# EAGLE library part SPARKFUN_BEAGLE_BONE_BLACK_CAPE (library SparkFun-Boards)
BeagleBone Black Rev C Cape Generic footprint for BeagleBone Black Rev C Capes. SparkFun Products: SparkFun BeagleBone Black Proto Cape <https://www.sparkfun.com/products/12774> SparkFun CryptoCape <https://www.sparkfun.com/products/12773>
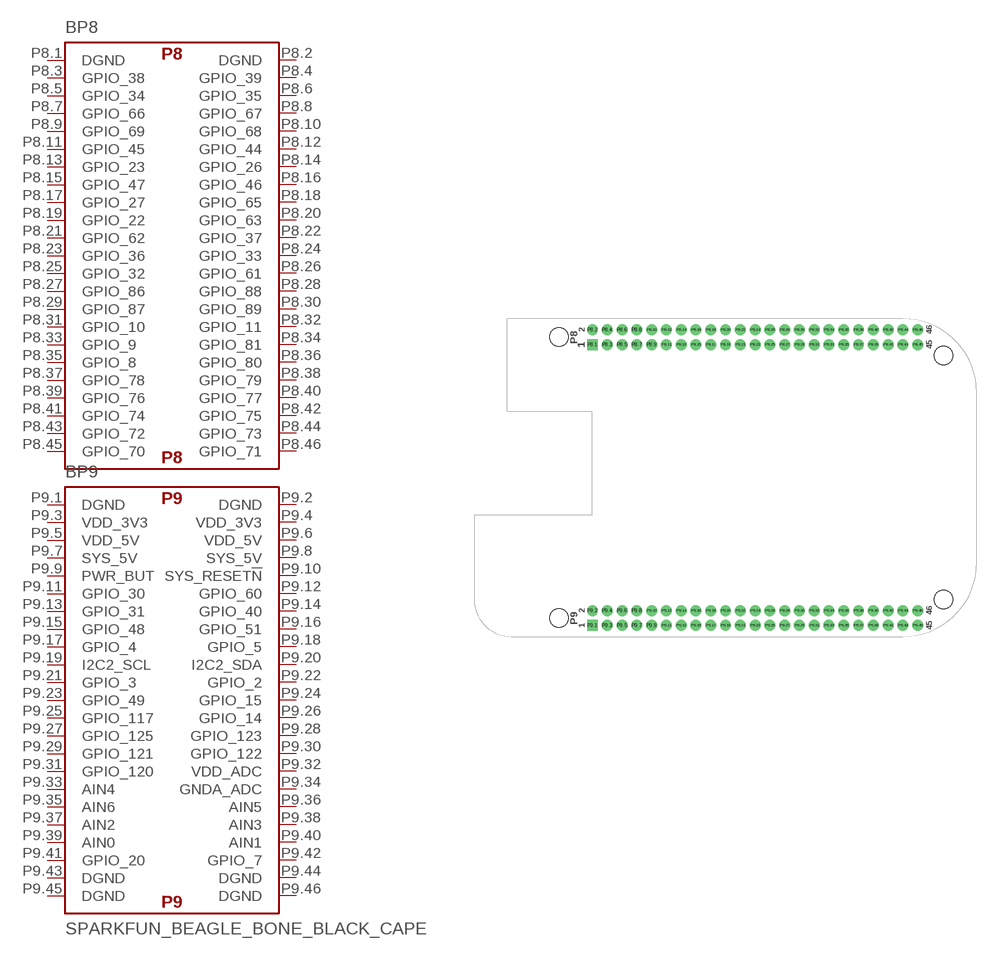
[diagram p13: symbol with the pads of BEAGLE_BONE_BLACK_CAPE; footprint BEAGLE_BONE_BLACK_CAPE]

Designator prefix B; gates P8=BEAGLE_BONE_BLACK_P8 P9=BEAGLE_BONE_BLACK_P9

## SPARKFUN_BEAGLE_BONE_BLACK_CAPE  [BEAGLE_BONE_BLACK_CAPE]
P8.1  P8:DGND
P8.2  P8:DGND
P8.3  P8:GPIO_38
P8.4  P8:GPIO_39
P8.5  P8:GPIO_34
P8.6  P8:GPIO_35
P8.7  P8:GPIO_66
P8.8  P8:GPIO_67
P8.9  P8:GPIO_69
P8.10  P8:GPIO_68
P8.11  P8:GPIO_45
P8.12  P8:GPIO_44
P8.13  P8:GPIO_23
P8.14  P8:GPIO_26
P8.15  P8:GPIO_47
P8.16  P8:GPIO_46
P8.17  P8:GPIO_27
P8.18  P8:GPIO_65
P8.19  P8:GPIO_22
P8.20  P8:GPIO_63
P8.21  P8:GPIO_62
P8.22  P8:GPIO_37
P8.23  P8:GPIO_36
P8.24  P8:GPIO_33
P8.25  P8:GPIO_32
P8.26  P8:GPIO_61
P8.27  P8:GPIO_86
P8.28  P8:GPIO_88
P8.29  P8:GPIO_87
P8.30  P8:GPIO_89
P8.31  P8:GPIO_10
P8.32  P8:GPIO_11
P8.33  P8:GPIO_9
P8.34  P8:GPIO_81
P8.35  P8:GPIO_8
P8.36  P8:GPIO_80
P8.37  P8:GPIO_78
P8.38  P8:GPIO_79
P8.39  P8:GPIO_76
P8.40  P8:GPIO_77
P8.41  P8:GPIO_74
P8.42  P8:GPIO_75
P8.43  P8:GPIO_72
P8.44  P8:GPIO_73
P8.45  P8:GPIO_70
P8.46  P8:GPIO_71
P9.1  P9:DGND
P9.2  P9:DGND
P9.3  P9:VDD_3V3
P9.4  P9:VDD_3V3
P9.5  P9:VDD_5V
P9.6  P9:VDD_5V
P9.7  P9:SYS_5V
P9.8  P9:SYS_5V
P9.9  P9:PWR_BUT
P9.10  P9:SYS_RESET!N
P9.11  P9:GPIO_30
P9.12  P9:GPIO_60
P9.13  P9:GPIO_31
P9.14  P9:GPIO_40
P9.15  P9:GPIO_48
P9.16  P9:GPIO_51
P9.17  P9:GPIO_4
P9.18  P9:GPIO_5
P9.19  P9:I2C2_SCL
P9.20  P9:I2C2_SDA
P9.21  P9:GPIO_3
P9.22  P9:GPIO_2
P9.23  P9:GPIO_49
P9.24  P9:GPIO_15
P9.25  P9:GPIO_117
P9.26  P9:GPIO_14
P9.27  P9:GPIO_125
P9.28  P9:GPIO_123
P9.29  P9:GPIO_121
P9.30  P9:GPIO_122
P9.31  P9:GPIO_120
P9.32  P9:VDD_ADC
P9.33  P9:AIN4
P9.34  P9:GNDA_ADC
P9.35  P9:AIN6
P9.36  P9:AIN5
P9.37  P9:AIN2
P9.38  P9:AIN3
P9.39  P9:AIN0
P9.40  P9:AIN1
P9.41  P9:GPIO_20
P9.42  P9:GPIO_7
P9.43  P9:DGND
P9.44  P9:DGND
P9.45  P9:DGND
P9.46  P9:DGND

## Footprint BEAGLE_BONE_BLACK_CAPE (pad centres in mm)
BeagleBone Black Cape Footprint Specifications: Pin count:92 Pin pitch: 0.1" Area:3.4x2.15 in Datasheet referenced for footprint: Example device(s): BeagleBone Black Cape
drill 1.016 pad 1.88 square: P8.1 -24.13,20.955; P9.1 -24.13,-27.305
drill 1.016 pad 1.88: P8.2 -24.13,23.495; P8.3 -21.59,20.955; P8.4 -21.59,23.495; P8.5 -19.05,20.955; P8.6 -19.05,23.495; P8.7 -16.51,20.955; P8.8 -16.51,23.495; P8.9 -13.97,20.955; P8.10 -13.97,23.495; P8.11 -11.43,20.955; P8.12 -11.43,23.495; P8.13 -8.89,20.955; P8.14 -8.89,23.495; P8.15 -6.35,20.955; P8.16 -6.35,23.495; P8.17 -3.81,20.955; P8.18 -3.81,23.495; P8.19 -1.27,20.955; P8.20 -1.27,23.495; P8.21 1.27,20.955; P8.22 1.27,23.495; P8.23 3.81,20.955; P8.24 3.81,23.495; P8.25 6.35,20.955; P8.26 6.35,23.495; P8.27 8.89,20.955; P8.28 8.89,23.495; P8.29 11.43,20.955; P8.30 11.43,23.495; P8.31 13.97,20.955; P8.32 13.97,23.495; P8.33 16.51,20.955; P8.34 16.51,23.495; P8.35 19.05,20.955; P8.36 19.05,23.495; P8.37 21.59,20.955; P8.38 21.59,23.495; P8.39 24.13,20.955; P8.40 24.13,23.495; P8.41 26.67,20.955; P8.42 26.67,23.495; P8.43 29.21,20.955; P8.44 29.21,23.495; P8.45 31.75,20.955; P8.46 31.75,23.495; P9.2 -24.13,-24.765; P9.3 -21.59,-27.305; P9.4 -21.59,-24.765; P9.5 -19.05,-27.305; P9.6 -19.05,-24.765; P9.7 -16.51,-27.305; P9.8 -16.51,-24.765; P9.9 -13.97,-27.305; P9.10 -13.97,-24.765; P9.11 -11.43,-27.305; P9.12 -11.43,-24.765; P9.13 -8.89,-27.305; P9.14 -8.89,-24.765; P9.15 -6.35,-27.305; P9.16 -6.35,-24.765; P9.17 -3.81,-27.305; P9.18 -3.81,-24.765; P9.19 -1.27,-27.305; P9.20 -1.27,-24.765; P9.21 1.27,-27.305; P9.22 1.27,-24.765; P9.23 3.81,-27.305; P9.24 3.81,-24.765; P9.25 6.35,-27.305; P9.26 6.35,-24.765; P9.27 8.89,-27.305; P9.28 8.89,-24.765; P9.29 11.43,-27.305; P9.30 11.43,-24.765; P9.31 13.97,-27.305; P9.32 13.97,-24.765; P9.33 16.51,-27.305; P9.34 16.51,-24.765; P9.35 19.05,-27.305; P9.36 19.05,-24.765; P9.37 21.59,-27.305; P9.38 21.59,-24.765; P9.39 24.13,-27.305; P9.40 24.13,-24.765; P9.41 26.67,-27.305; P9.42 26.67,-24.765; P9.43 29.21,-27.305; P9.44 29.21,-24.765; P9.45 31.75,-27.305; P9.46 31.75,-24.765
hole 3.175 at -29.845,-26.035
hole 3.175 at 36.195,-22.86
hole 3.175 at 36.195,19.05
hole 3.175 at -29.845,22.225